# EAGLE library part SI8621BC-B-IS (library harp timestamp generator)
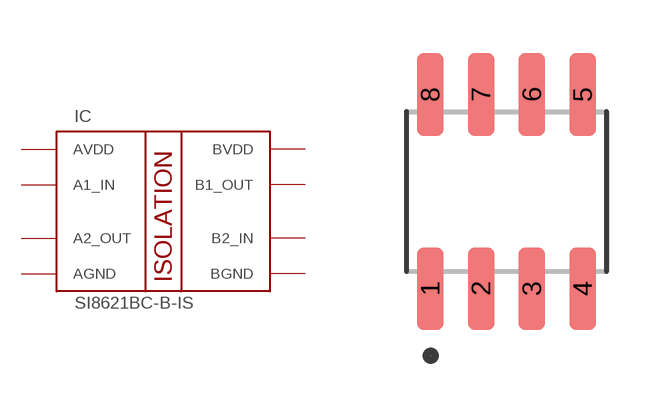
[diagram p6: symbol with the pads of SOIC8; footprint SOIC8]

Designator prefix IC

## SI8621BC-B-IS  [SOIC8]
1  AVDD
2  A1_IN
3  A2_OUT
4  AGND
5  BGND
6  B2_IN
7  B1_OUT
8  BVDD

## Footprint SOIC8 (pad centres in mm)
Small Outline IC (SOIC), 1.27 mm pitch; 8 pin, 4.90 mm L X 3.90 mm W X 1.75 mm H body PCB Libraries Packages
smd 0.67 x 2.07: 1 -1.905,-2.425; 2 -0.635,-2.425; 3 0.635,-2.425; 4 1.905,-2.425; 5 1.905,2.425; 6 0.635,2.425; 7 -0.635,2.425; 8 -1.905,2.425